# Altium schematic symbol library CUI Inc.SchLib: 2 symbols
Pins are listed as number, name and electrical type; pins without a type are passive.

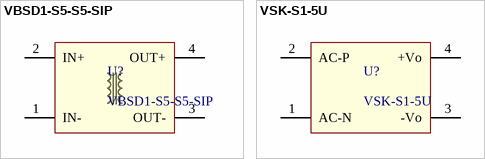
[diagram p0: symbols VBSD1-S5-S5-SIP to VSK-S1-5U]

## VBSD1-S5-S5-SIP
designator U?
DC-DC Converter
footprint VBSD1-SIP (Potted DC-DC converter)
pins: 1 IN- (power), 2 IN+ (power), 3 OUT- (power), 4 OUT+ (power)

## VSK-S1-5U
designator U?
AC-DC converter; Supplier Part Number 1: 102-2595-ND
footprint VSK-S1 (AC-DC converter)
pins: 1 AC-N, 2 AC-P, 3 -Vo, 4 +Vo